# EAGLE library part TFT-22 (library alvie)
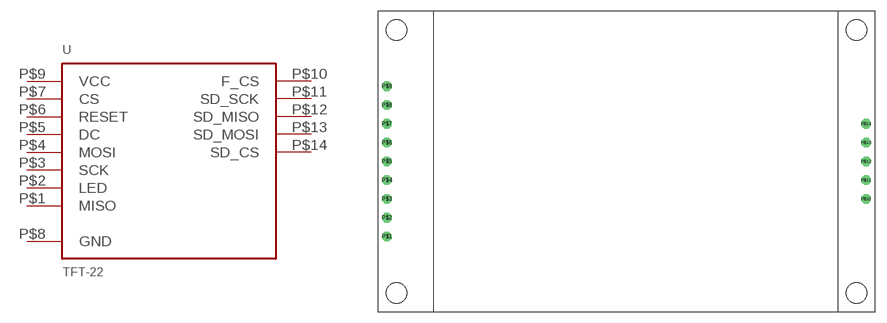
[diagram p12: symbol with the pads of TFT-22; footprint TFT-22]

Designator prefix -

## TFT-22  [TFT-22]
P$1  MISO
P$2  LED  in
P$3  SCK  in
P$4  MOSI  in
P$5  DC  in
P$6  RESET  in
P$7  CS  in
P$8  GND  pwr
P$9  VCC  pwr
P$10  F_CS
P$11  SD_SCK
P$12  SD_MISO
P$13  SD_MOSI
P$14  SD_CS

## Footprint TFT-22 (pad centres in mm)
drill 0.8 octagon: P$1 1.27,10.16; P$2 1.27,12.7; P$3 1.27,15.24; P$4 1.27,17.78; P$5 1.27,20.32; P$6 1.27,22.86; P$7 1.27,25.4; P$8 1.27,27.94; P$9 1.27,30.48; P$10 66.04,15.24; P$11 66.04,17.78; P$12 66.04,20.32; P$13 66.04,22.86; P$14 66.04,25.4
hole 2.8 at 2.54,2.54
hole 2.8 at 2.54,38.1
hole 2.8 at 64.77,38.1
hole 2.8 at 64.77,2.54